# EAGLE library part ADA4430-1 (library Traficon)
Ultralow Power Video Filter with Power-Down
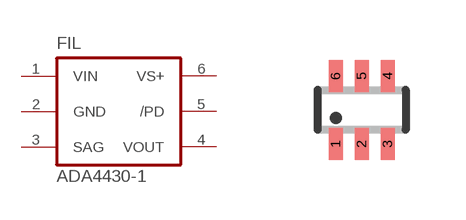
[diagram p109: symbol with the pads of SC70-6L; footprint SC70-6L]

Designator prefix FIL

## ADA4430-1  [SC70-6L]
1  VIN
2  GND
3  SAG
4  VOUT
5  /PD
6  VS+

## Footprint SC70-6L (pad centres in mm)
SC-70 Package
smd 0.35 x 0.8: 1 -0.65,-0.85; 2 0,-0.85; 3 0.65,-0.85; 4 0.65,0.85; 5 0,0.85; 6 -0.65,0.85